# Altium footprint library GDT气体放电管.PcbLib: 1 footprints
Each footprint in its own frame and in the unit in brackets; x right, y up, seen from the top. Pads: shape width x height; smd on the part's side, far side on the other; paste and mask are expansions set on the pad; w line width, h text height; cw(c..) or ccw(c..) is an arc to the next point about the centre after c.
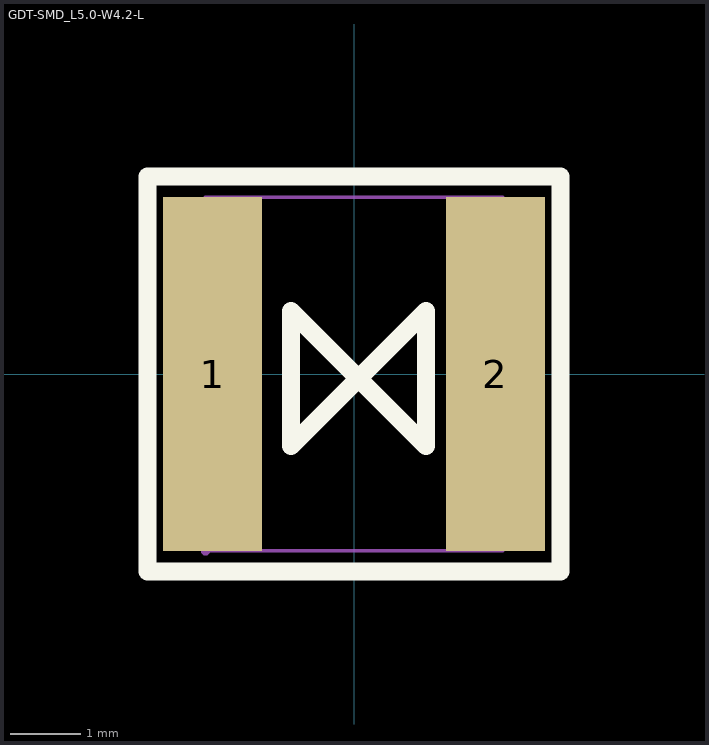
[diagram p0: the footprint, top view; thin cyan lines are the x and y axes]

## GDT-SMD_L5.0-W4.2-L [mm]
pads (2):
  rect 1.4x5 smd: 1(-2,0) 2(2,0)
Top Overlay:
  lines w0.254: -2.921,-2.794 2.921,-2.794 2.921,2.794 -2.921,2.794 -2.921,-2.794 ; -0.889,-1.016 -0.889,0.889 1.016,-1.016 1.016,0.889 -0.889,-1.016
Mechanical 15:
  region: -2.04,-2.5 -2.04,-2.475 -2.075,-2.44 -2.125,-2.44 -2.16,-2.475 -2.16,-2.5 -2.16,-2.525 -2.125,-2.56 -2.075,-2.56 -2.04,-2.525
  region: 1.6,2.5 2.1,2.5 2.1,-2.5 1.6,-2.5
  region: -2.1,2.5 -1.6,2.5 -1.6,-2.5 -2.1,-2.5
  lines w0.051: -2.1,-2.5 -2.1,2.5 2.1,2.5 2.1,-2.5 -2.1,-2.5
3D body "U5.step": height 5, standoff 0, extent -2.1,-2.5 2.101,2.5